# Altium footprint library WE-AC HC.PcbLib: 10 footprints
Each footprint in its own frame and in the unit in brackets; x right, y up, seen from the top. Pads: shape width x height; smd on the part's side, far side on the other; paste and mask are expansions set on the pad; w line width, h text height; cw(c..) or ccw(c..) is an arc to the next point about the centre after c.
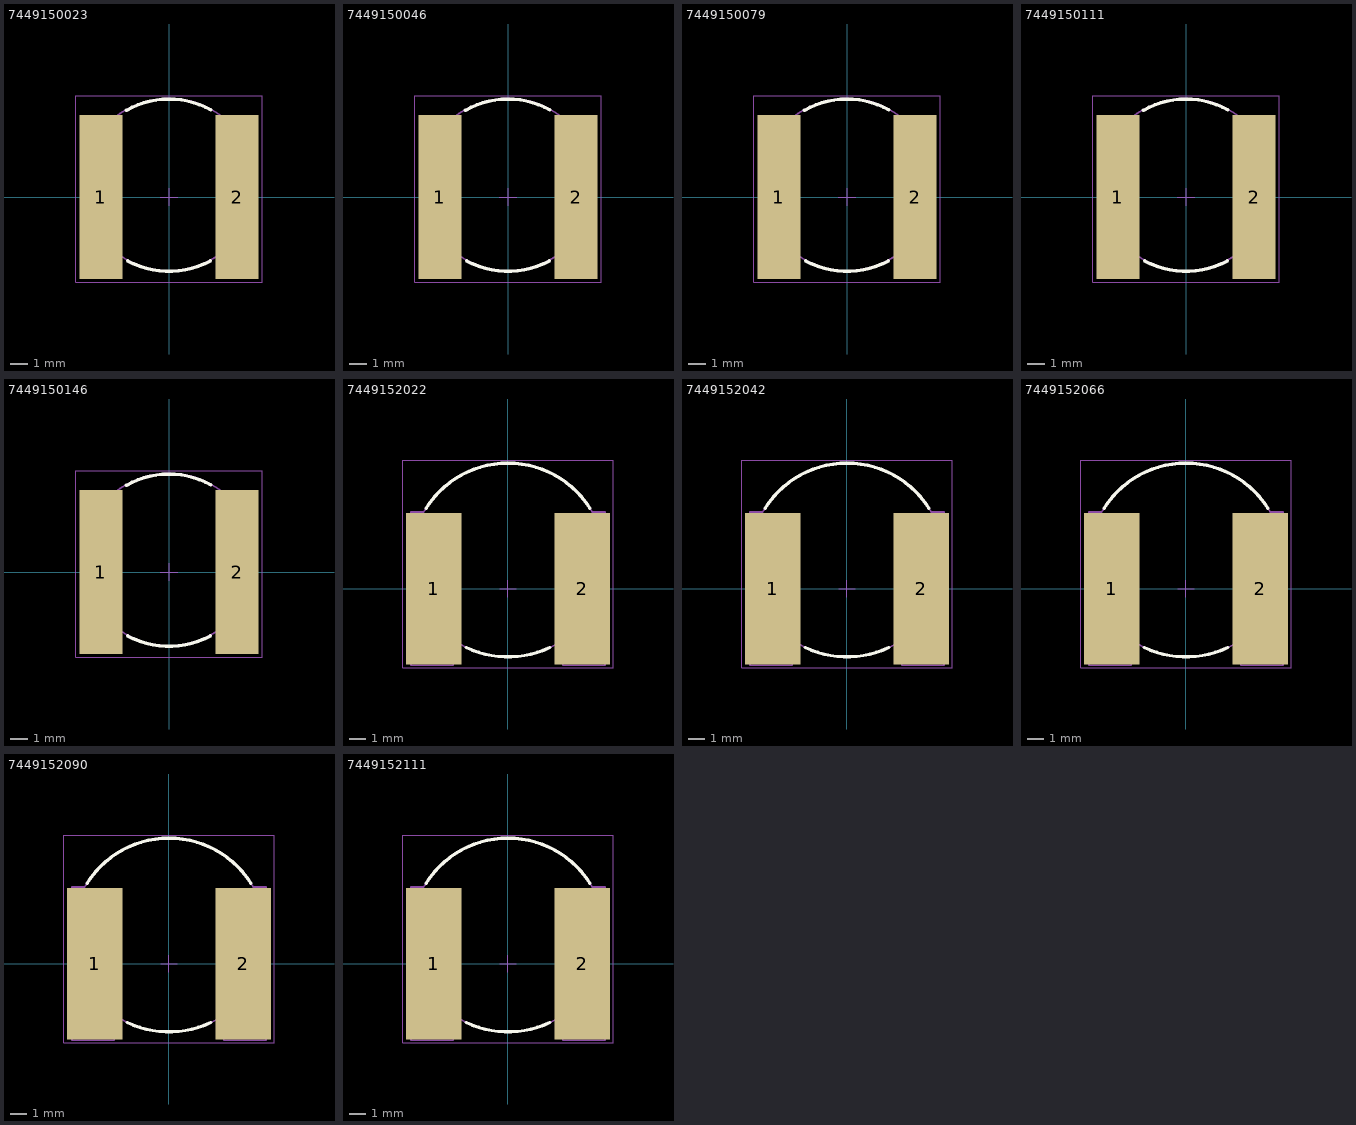
[diagram p0: the footprints below, top view; thin cyan lines are the x and y axes]

## 7449150023 [mm] "Air Coil High Current Inductor, body 10.00x10.00mm"
height 4
pads (2):
  rect 2.5x9.5 smd: 1(-3.95,0) 2(3.95,0)
Top Overlay:
  lines w0.2: -2.474,5.03 cw(c0,0.685) 2.43,5.055 ; -2.401,-3.701 ccw(c0,0.685) 2.401,-3.701
Top Designator:
  text ".Designator" at -7.498,-0.5 h1.5
Top Component Outline:
  circle w0.1: c0,0.725 r5
  lines w0.1: -3.525,4.275 -5,4.275 -5,-4.275 -3.2,-4.275 -3.2,-3.15 ; 3.2,-3.15 3.2,-4.275 5,-4.275 5,4.275 3.525,4.275
Top 3D Body:
  circle w0.1: c0,0.725 r5
  lines w0.1: -3.525,4.275 -5,4.275 -5,-4.275 -3.2,-4.275 -3.2,-3.15 ; 3.2,-3.15 3.2,-4.275 5,-4.275 5,4.275 3.525,4.275
Top Courtyard:
  lines w0.05: -0.5,0 0.5,0 ; 0,-0.5 0,0.5 ; -5.4,-4.95 5.4,-4.95 5.4,5.885 -5.4,5.885 -5.4,-4.95
3D body "7449150023.stp": height 4.1, standoff 0.04, extent -5,-4.275 5,5.725

## 7449150046 [mm] "Air Coil High Current Inductor, body 10.00x10.00mm"
height 5
pads (2):
  rect 2.5x9.5 smd: 1(-3.95,0) 2(3.95,0)
Top Overlay:
  lines w0.2: -2.474,5.03 cw(c0,0.685) 2.43,5.055 ; -2.401,-3.701 ccw(c0,0.685) 2.401,-3.701
Top Designator:
  text ".Designator" at -7.498,-0.5 h1.5
Top Component Outline:
  circle w0.1: c0,0.725 r5
  lines w0.1: -3.525,4.275 -5,4.275 -5,-4.275 -3.2,-4.275 -3.2,-3.15 ; 3.2,-3.15 3.2,-4.275 5,-4.275 5,4.275 3.525,4.275
Top 3D Body:
  circle w0.1: c0,0.725 r5
  lines w0.1: -3.525,4.275 -5,4.275 -5,-4.275 -3.2,-4.275 -3.2,-3.15 ; 3.2,-3.15 3.2,-4.275 5,-4.275 5,4.275 3.525,4.275
Top Courtyard:
  lines w0.05: -0.5,0 0.5,0 ; 0,-0.5 0,0.5 ; -5.4,-4.95 -5.4,5.885 5.4,5.885 5.4,-4.95 -5.4,-4.95
3D body "7449150046.stp": height 5.05, standoff 0, extent -5,-4.275 5,6.125

## 7449150079 [mm] "Air Coil High Current Inductor, size 1010"
height 5.8
pads (2):
  rect 2.5x9.5 smd: 1(-3.95,0) 2(3.95,0)
Top Overlay:
  lines w0.2: -2.474,5.03 cw(c0,0.685) 2.43,5.055 ; -2.401,-3.701 ccw(c0,0.685) 2.401,-3.701
Top Designator:
  text ".Designator" at -7.498,-0.5 h1.5
Top Component Outline:
  circle w0.1: c0,0.725 r5
  lines w0.1: -3.525,4.275 -5,4.275 -5,-4.275 -3.2,-4.275 -3.2,-3.15 ; 3.2,-3.15 3.2,-4.275 5,-4.275 5,4.275 3.525,4.275
Top 3D Body:
  circle w0.1: c0,0.725 r5
  lines w0.1: -3.525,4.275 -5,4.275 -5,-4.275 -3.2,-4.275 -3.2,-3.15 ; 3.2,-3.15 3.2,-4.275 5,-4.275 5,4.275 3.525,4.275
Top Courtyard:
  lines w0.05: -0.5,0 0.5,0 ; 0,-0.5 0,0.5 ; -5.4,-4.95 5.4,-4.95 5.4,5.885 -5.4,5.885 -5.4,-4.95
3D body "7449150079.stp": height 5.89, standoff 0.05, extent -5,-4.275 5,5.725

## 7449150111 [mm] "Air Coil High Current Inductor, size 1010"
height 6.9
pads (2):
  rect 2.5x9.5 smd: 1(-3.95,0) 2(3.95,0)
Top Overlay:
  lines w0.2: -2.474,5.03 cw(c0,0.685) 2.43,5.055 ; -2.401,-3.701 ccw(c0,0.685) 2.401,-3.701
Top Designator:
  text ".Designator" at -7.498,-0.5 h1.5
Top Component Outline:
  circle w0.1: c0,0.725 r5
  lines w0.1: -3.525,4.275 -5,4.275 -5,-4.275 -3.2,-4.275 -3.2,-3.15 ; 3.2,-3.15 3.2,-4.275 5,-4.275 5,4.275 3.525,4.275
Top 3D Body:
  circle w0.1: c0,0.725 r5
  lines w0.1: -3.525,4.275 -5,4.275 -5,-4.275 -3.2,-4.275 -3.2,-3.15 ; 3.2,-3.15 3.2,-4.275 5,-4.275 5,4.275 3.525,4.275
Top Courtyard:
  lines w0.05: -0.5,0 0.5,0 ; 0,-0.5 0,0.5 ; -5.4,-4.95 -5.4,5.885 5.4,5.885 5.4,-4.95 -5.4,-4.95
3D body "7449150111.stp": height 6.96, standoff 0.02, extent -5,-4.275 5,5.725

## 7449150146 [mm] "Air Coil High Current Inductor, size 1010"
height 6.5
pads (2):
  rect 2.5x9.5 smd: 1(-3.95,0) 2(3.95,0)
Top Overlay:
  lines w0.2: -2.474,5.03 cw(c0,0.685) 2.43,5.055 ; -2.401,-3.701 ccw(c0,0.685) 2.401,-3.701
Top Designator:
  text ".Designator" at -7.498,-0.5 h1.5
Top Component Outline:
  circle w0.1: c0,0.725 r5
  lines w0.1: -3.525,4.275 -5,4.275 -5,-4.275 -3.2,-4.275 -3.2,-3.15 ; 3.2,-3.15 3.2,-4.275 5,-4.275 5,4.275 3.525,4.275
Top 3D Body:
  circle w0.1: c0,0.725 r5
  lines w0.1: -3.525,4.275 -5,4.275 -5,-4.275 -3.2,-4.275 -3.2,-3.15 ; 3.2,-3.15 3.2,-4.275 5,-4.275 5,4.275 3.525,4.275
Top Courtyard:
  lines w0.05: -0.5,0 0.5,0 ; 0,-0.5 0,0.5 ; -5.4,-4.95 -5.4,5.885 5.4,5.885 5.4,-4.95 -5.4,-4.95
3D body "7449150146.stp": height 6.26, standoff 0.01, extent -5,-4.275 5,5.725

## 7449152022 [mm] "Air Coil High Current Inductor, size 1212"
height 6.6
pads (2):
  rect 3.3x9 smd: 1(-4.4,0) 2(4.4,0)
Top Overlay:
  lines w0.2: -4.853,4.784 cw(c0,1.7) 4.853,4.784 ; -2.474,-3.49 ccw(c0,1.7) 2.47,-3.492
Top Designator:
  text ".Designator" at -7.498,-0.5 h1.5
Top Component Outline:
  circle w0.1: c0,1.7 r5.75
  lines w0.1: -5,4.55 -5.75,4.55 -5.75,-4.55 -3.25,-4.55 -3.25,-3.05 ; 3.25,-3.05 3.25,-4.55 5.75,-4.55 5.75,4.55 5,4.55
Top 3D Body:
  circle w0.1: c0,1.7 r5.75
  lines w0.1: -5,4.55 -5.75,4.55 -5.75,-4.55 -3.25,-4.55 -3.25,-3.05 ; 3.25,-3.05 3.25,-4.55 5.75,-4.55 5.75,4.55 5,4.55
Top Courtyard:
  lines w0.05: -0.5,0 0.5,0 ; 0,-0.5 0,0.5 ; -6.25,-4.7 -6.25,7.63 6.25,7.63 6.25,-4.7 -6.25,-4.7
3D body "7449152022.stp": height 6.69, standoff 0.04, extent -5.75,-4.57 5.75,7.43

## 7449152042 [mm] "Air Coil High Current Inductor, size 1212"
height 7.6
pads (2):
  rect 3.3x9 smd: 1(-4.4,0) 2(4.4,0)
Top Overlay:
  lines w0.2: -4.853,4.784 cw(c0,1.7) 4.853,4.784 ; -2.474,-3.49 ccw(c0,1.7) 2.47,-3.492
Top Designator:
  text ".Designator" at -7.498,-0.5 h1.5
Top Component Outline:
  circle w0.1: c0,1.7 r5.75
  lines w0.1: -5,4.55 -5.75,4.55 -5.75,-4.55 -3.25,-4.55 -3.25,-3.05 ; 3.25,-3.05 3.25,-4.55 5.75,-4.55 5.75,4.55 5,4.55
Top 3D Body:
  circle w0.1: c0,1.7 r5.75
  lines w0.1: -5,4.55 -5.75,4.55 -5.75,-4.55 -3.25,-4.55 -3.25,-3.05 ; 3.25,-3.05 3.25,-4.55 5.75,-4.55 5.75,4.55 5,4.55
Top Courtyard:
  lines w0.05: -0.5,0 0.5,0 ; 0,-0.5 0,0.5 ; -6.25,-4.7 -6.25,7.63 6.25,7.63 6.25,-4.7 -6.25,-4.7
3D body "7449152042.stp": height 7.68, standoff 0, extent -5.75,-4.57 5.75,7.43

## 7449152066 [mm] "Air Coil High Current Inductor, size 1212"
height 8.8
pads (2):
  rect 3.3x9 smd: 1(-4.4,0) 2(4.4,0)
Top Overlay:
  lines w0.2: -4.853,4.784 cw(c0,1.7) 4.853,4.784 ; -2.474,-3.49 ccw(c0,1.7) 2.47,-3.492
Top Designator:
  text ".Designator" at -7.498,-0.5 h1.5
Top Component Outline:
  circle w0.1: c0,1.7 r5.75
  lines w0.1: -5,4.55 -5.75,4.55 -5.75,-4.55 -3.25,-4.55 -3.25,-3.05 ; 3.25,-3.05 3.25,-4.55 5.75,-4.55 5.75,4.55 5,4.55
Top 3D Body:
  circle w0.1: c0,1.7 r5.75
  lines w0.1: -5,4.55 -5.75,4.55 -5.75,-4.55 -3.25,-4.55 -3.25,-3.05 ; 3.25,-3.05 3.25,-4.55 5.75,-4.55 5.75,4.55 5,4.55
Top Courtyard:
  lines w0.05: -0.5,0 0.5,0 ; 0,-0.5 0,0.5 ; -6.25,-4.7 -6.25,7.63 6.25,7.63 6.25,-4.7 -6.25,-4.7
3D body "7449152066.stp": height 8.87, standoff 0.02, extent -5.75,-4.57 5.75,7.43

## 7449152090 [mm] "Air Coil High Current Inductor, size 1212"
height 10.4
pads (2):
  rect 3.3x9 smd: 1(-4.4,0) 2(4.4,0)
Top Overlay:
  lines w0.2: -4.853,4.784 cw(c0,1.7) 4.853,4.784 ; -2.474,-3.49 ccw(c0,1.7) 2.47,-3.492
Top Designator:
  text ".Designator" at -7.498,-0.5 h1.5
Top Component Outline:
  circle w0.1: c0,1.7 r5.75
  lines w0.1: -5,4.55 -5.75,4.55 -5.75,-4.55 -3.25,-4.55 -3.25,-3.05 ; 3.25,-3.05 3.25,-4.55 5.75,-4.55 5.75,4.55 5,4.55
Top 3D Body:
  circle w0.1: c0,1.7 r5.75
  lines w0.1: -5,4.55 -5.75,4.55 -5.75,-4.55 -3.25,-4.55 -3.25,-3.05 ; 3.25,-3.05 3.25,-4.55 5.75,-4.55 5.75,4.55 5,4.55
Top Courtyard:
  lines w0.05: -0.5,0 0.5,0 ; 0,-0.5 0,0.5 ; -6.25,-4.7 6.25,-4.7 6.25,7.63 -6.25,7.63 -6.25,-4.7
3D body "7449152090.stp": height 10.51, standoff 0.05, extent -5.75,-4.57 5.75,7.43

## 7449152111 [mm] "Air Coil High Current Inductor, size 1212"
height 11.3
pads (2):
  rect 3.3x9 smd: 1(-4.4,0) 2(4.4,0)
Top Overlay:
  lines w0.2: -4.853,4.784 cw(c0,1.7) 4.853,4.784 ; -2.474,-3.49 ccw(c0,1.7) 2.47,-3.492
Top Designator:
  text ".Designator" at -7.498,-0.5 h1.5
Top Component Outline:
  circle w0.1: c0,1.7 r5.75
  lines w0.1: -5,4.55 -5.75,4.55 -5.75,-4.55 -3.25,-4.55 -3.25,-3.05 ; 3.25,-3.05 3.25,-4.55 5.75,-4.55 5.75,4.55 5,4.55
Top 3D Body:
  circle w0.1: c0,1.7 r5.75
  lines w0.1: -5,4.55 -5.75,4.55 -5.75,-4.55 -3.25,-4.55 -3.25,-3.05 ; 3.25,-3.05 3.25,-4.55 5.75,-4.55 5.75,4.55 5,4.55
Top Courtyard:
  lines w0.05: -0.5,0 0.5,0 ; 0,-0.5 0,0.5 ; -6.25,-4.7 -6.25,7.63 6.25,7.63 6.25,-4.7 -6.25,-4.7
3D body "7449152111.stp": height 11.36, standoff 0.01, extent -5.75,-4.57 5.75,7.43